# EAGLE library part ADC08100CIMTC (library 2023-12-13_08-33-25_Library)
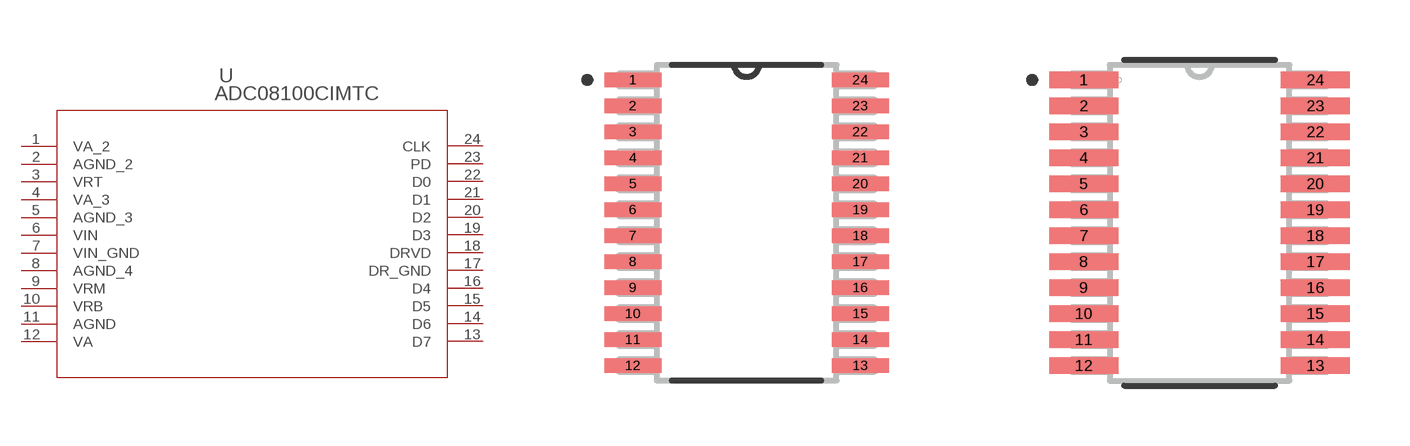
[diagram p0: symbol with the pads of MTC24; footprints MTC24, MTC24-M]

Designator prefix U

## ADC08100CIMTCMTC24 (Copyright: Copyright (C) 2023 Ultra Librarian. All rights reserved.; Manufacturer_Part_Number: ADC08100CIMTC; Mfr_Name: Texas Instruments; Type: ADC08100CIMTC)  [MTC24]
1  VA_2  pas
2  AGND_2  pas
3  VRT  pas
4  VA_3  pas
5  AGND_3  pas
6  VIN  in
7  VIN_GND  pas
8  AGND_4  pas
9  VRM  pas
10  VRB  pas
11  AGND  pas
12  VA  pas
13  D7  out
14  D6  out
15  D5  out
16  D4  out
17  DR_GND  pas
18  DRVD  pas
19  D3  out
20  D2  out
21  D1  out
22  D0  out
23  PD  pas
24  CLK  pas

## ADC08100CIMTCMTC24-M (Copyright: Copyright (C) 2023 Ultra Librarian. All rights reserved.; Manufacturer_Part_Number: ADC08100CIMTC; Mfr_Name: Texas Instruments; Type: ADC08100CIMTC)  [MTC24-M]
Pads as for MTC24

## ADC08100CIMTCMTC24-L (Copyright: Copyright (C) 2023 Ultra Librarian. All rights reserved.; Manufacturer_Part_Number: ADC08100CIMTC; Mfr_Name: Texas Instruments; Type: ADC08100CIMTC)  [MTC24-L]
Pads as for MTC24

## Footprint MTC24 (pad centres in mm)
smd 1.422 x 0.356: 1 -2.845,3.575; 2 -2.845,2.925; 3 -2.845,2.275; 4 -2.845,1.625; 5 -2.845,0.975; 6 -2.845,0.325; 7 -2.845,-0.325; 8 -2.845,-0.975; 9 -2.845,-1.625; 10 -2.845,-2.275; 11 -2.845,-2.925; 12 -2.845,-3.575; 13 2.845,-3.575; 14 2.845,-2.925; 15 2.845,-2.275; 16 2.845,-1.625; 17 2.845,-0.975; 18 2.845,-0.325; 19 2.845,0.325; 20 2.845,0.975; 21 2.845,1.625; 22 2.845,2.275; 23 2.845,2.925; 24 2.845,3.575

## Footprint MTC24-M (pad centres in mm)
smd 1.727 x 0.406: 1 -2.896,3.575; 2 -2.896,2.925; 3 -2.896,2.275; 4 -2.896,1.625; 5 -2.896,0.975; 6 -2.896,0.325; 7 -2.896,-0.325; 8 -2.896,-0.975; 9 -2.896,-1.625; 10 -2.896,-2.275; 11 -2.896,-2.925; 12 -2.896,-3.575; 13 2.896,-3.575; 14 2.896,-2.925; 15 2.896,-2.275; 16 2.896,-1.625; 17 2.896,-0.975; 18 2.896,-0.325; 19 2.896,0.325; 20 2.896,0.975; 21 2.896,1.625; 22 2.896,2.275; 23 2.896,2.925; 24 2.896,3.575

## Footprint MTC24-L (pad centres in mm)
smd 1.118 x 0.305: 1 -2.794,3.575; 2 -2.794,2.925; 3 -2.794,2.275; 4 -2.794,1.625; 5 -2.794,0.975; 6 -2.794,0.325; 7 -2.794,-0.325; 8 -2.794,-0.975; 9 -2.794,-1.625; 10 -2.794,-2.275; 11 -2.794,-2.925; 12 -2.794,-3.575; 13 2.794,-3.575; 14 2.794,-2.925; 15 2.794,-2.275; 16 2.794,-1.625; 17 2.794,-0.975; 18 2.794,-0.325; 19 2.794,0.325; 20 2.794,0.975; 21 2.794,1.625; 22 2.794,2.275; 23 2.794,2.925; 24 2.794,3.575